# Altium footprint library TE_CONN_1-2834015-3.PcbLib: 1 footprints
Each footprint in its own frame and in the unit in brackets; x right, y up, seen from the top. Pads: shape width x height; smd on the part's side, far side on the other; paste and mask are expansions set on the pad; w line width, h text height; cw(c..) or ccw(c..) is an arc to the next point about the centre after c.
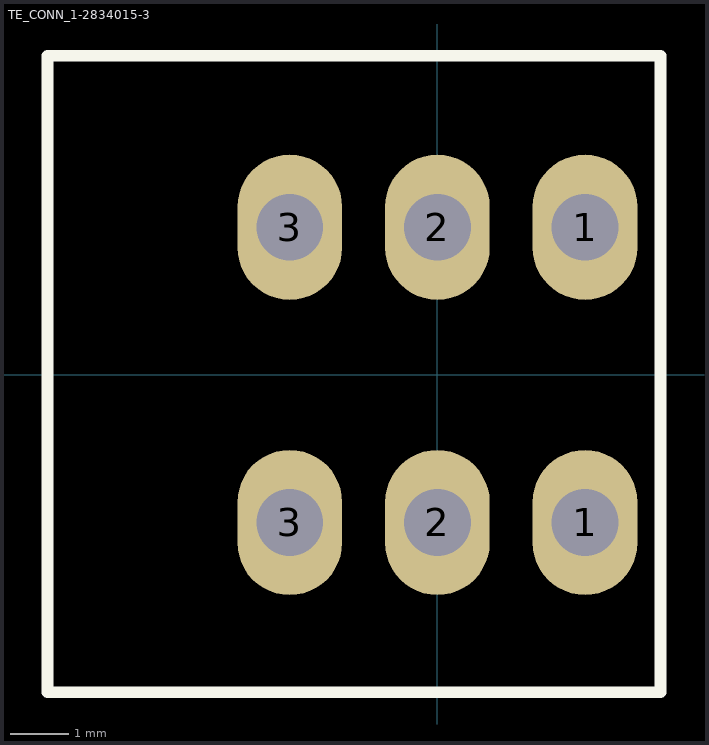
[diagram p0: the footprint, top view; thin cyan lines are the x and y axes]

## TE_CONN_1-2834015-3 [mm]
pads (6):
  oval 1.8x2.5 hole 1.15: 1(2.54,-2.54) 1(2.54,2.54) 2(0,-2.54) 2(0,2.54) 3(-2.54,-2.54) 3(-2.54,2.54)
Top Overlay:
  lines w0.2: -6.71,-5.46 -6.71,5.49 3.84,5.49 3.84,-5.46 -6.71,-5.46
3D body "TE_CONN_1-2834015-3.stp": height 13.6, standoff -4.87, extent -6.76,-7.26 3.86,5.54